# Altium schematic symbol library Conn_Molex_22-23-2051_eec.SchLib: 1 symbol
Pins are listed as number, name and electrical type; pins without a type are passive.

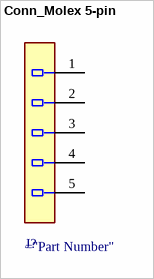
[diagram p0: symbol Conn_Molex 5-pin]

## Conn_Molex 5-pin
designator J?  (value not drawn)
pins: 1, 2, 3, 4, 5